# Altium schematic symbol library MatchingConnectors.SchLib: 2 symbols
Pins are listed as number, name and electrical type; pins without a type are passive.

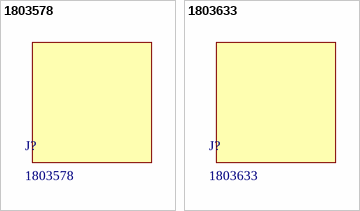
[diagram p0: symbols 1803578 to 1803633]

## 1803578
designator J?
Plug, Terminal Block; 8 A; 160 V; 3.81 mm; 2; Screw; 2.5 kV; 160 V; Polyamide; Manufacturer: Phoenix Contact; Number of Positions: 2; Current Rating: 8A; Gender: Male; Voltage Rating (AC): 160V; Connector Type: Screw,Power,Rectangular; Number of Levels: 1; Voltage: 300V; Pitch: 3.81mm; Wire Gauge (Max): 30AWG; Wire Gauge (Min): 14AWG; Wire/Cable Gauge: 16AWG; Stripping Length: 7mm; Approvals: UL,CSA,VDE; Supplier: Rs; Supplier Part Number: 2204658; Manufacturer Part Number: 1803578; RoHS: Yes; Category: Terminal Blocks; Stock: 1335; Pricing: 5=2.048, 75=1.866, 250=1.702, 500=1.57, 1000=1.448 (GBP); Mounting Technology: Free Hanging,Cable; Contact Material: Tin; Contact Plating: Tin; Housing Color: Green; Housing Material: Polyamide; Color: Green; Weight: 3.456848oz; Insulation Material: Nylon; Min Operating Temperature: -40°C; Max Operating Temperature: 100°C; Package Quantity: 50; Packaging: Bulk; Termination: Screw; Orientation: Right Angle; Series: MC; Number of Poles: 2; Number of Rows: 1; Max Current Rating: 8A; Number of Contacts: 2; Voltage Rating: 160V; Number of Positions Per Level: 2; Current: 8A; Max Supply Voltage: 160V; Number of Circuits: 2; Voltage Rating (DC): 160V; Length: 8.41mm; Width: 16.1mm; Height: 11.1mm; Depth: 16.1mm; Radiation Hardening: No; Lead Free: Lead Free; RoHS Compliant: Yes; Reach SVHC Compliant: No; Flammability Rating: UL94 V-0; ComponentLink1URL: https://datasheet.ciiva.com/795/1803578-795460.pdf?src-supplier=Digikey; ComponentLink1Description: https://datasheet.ciiva.com/795/1803578-795460.pdf?src-supplier=Digikey; ComponentLink2URL: https://datasheet.ciiva.com/16046/1803578-16046760.pdf?src-supplier=Onlinecomponents.com; ComponentLink2Description: https://datasheet.ciiva.com/16046/1803578-16046760.pdf?src-supplier=Onlinecomponents.com; ComponentLink3URL: https://datasheet.ciiva.com/29224/740200-da-01-en-leiterplattenstecker-mc-1-5-2-st-3-81-29224613.pdf?src-supplier=Conrad; ComponentLink3Description: https://datasheet.ciiva.com/29224/740200-da-01-en-leiterplattenstecker-mc-1-5-2-st-3-81-29224613.pdf?src-supplier=Conrad; Supplier 1: Rs; Supplier Part Number 1: 2204658

## 1803633
designator J?
Plug, Terminal Block; 8 A; 160 V; 3.81 mm; 8; Screw; 2.5 kV; 160 V; Polyamide; Manufacturer: Phoenix Contact; Gender: Male; Number of Positions: 8; Current Rating: 8A; Voltage Rating: 160V; Number of Levels: 1; Voltage: 300V; Wire Gauge (Max): 30AWG; Wire Gauge (Min): 14AWG; Wire/Cable Gauge: 28AWG; Pitch: 3.81mm; Stripping Length: 7mm; Thread Size: M2; Approvals: UL,CSA,VDE,cULus,CB,EAC; Supplier 1: Rs; Supplier Part Number 1: 2204709; Supplier: Rs; Supplier Part Number: 2204709; Manufacturer Part Number: 1803633; RoHS: Yes; Category: Terminal Blocks; Stock: 1540; Pricing: 5=7.832, 125=7.048, 375=6.266, 1000=5.474, 2000=5.09 (GBP); Mounting Technology: Free Hanging,Cable; Contact Plating: Tin; Contact Material: Tin; Color: Green; Weight: 3.456848oz; Material: Nylon; Housing Color: Green; Housing Material: Polyamide; Insulation Material: Nylon; Packaging: Bulk; Series: MC; Number of Rows: 1; Package Quantity: 50; Termination: Screw; Number of Poles: 8; Max Current Rating: 8A; Max Supply Voltage: 160V; Number of Positions Per Level: 8; Current: 8A; Number of Contacts: 8; Number of Circuits: 8; Orientation: Right Angle; Connector Type: Screw; Voltage Rating (DC): 160V; Number of Ways: 8; Length: 31.27mm; Width: 31.27mm; Height: 11.1mm; Depth: 16.1mm; Radiation Hardening: No; RoHS Compliant: Yes; Reach SVHC Compliant: No; Lead Free: Lead Free; Flammability Rating: UL94 V-0; ComponentLink1URL: https://datasheet.ciiva.com/795/1803633-795565.pdf?src-supplier=Digikey; ComponentLink1Description: https://datasheet.ciiva.com/795/1803633-795565.pdf?src-supplier=Digikey; ComponentLink2URL: https://datasheet.ciiva.com/16071/1803633-16071208.pdf?src-supplier=Onlinecomponents.com; ComponentLink2Description: https://datasheet.ciiva.com/16071/1803633-16071208.pdf?src-supplier=Onlinecomponents.com; ComponentLink3URL: https://datasheet.ciiva.com/15169/getdatasheetpartid-177866-15169646.pdf?src-supplier=Verical; ComponentLink3Description: https://datasheet.ciiva.com/15169/getdatasheetpartid-177866-15169646.pdf?src-supplier=Verical; ComponentLink4URL: https://datasheet.ciiva.com/8032/100951-8032830.pdf?src-supplier=Element14; ComponentLink4Description: https://datasheet.ciiva.com/8032/100951-8032830.pdf?src-supplier=Element14; ComponentLink5URL: https://datasheet.ciiva.com/29224/740320-da-01-en-leiterplattenstecker-mc-1-5-8-st-3-81-29224629.pdf?src-supplier=Conrad; ComponentLink5Description: https://datasheet.ciiva.com/29224/740320-da-01-en-leiterplattenstecker-mc-1-5-8-st-3-81-29224629.pdf?src-supplier=Conrad; ComponentLink6URL: https://datasheet.ciiva.com/33105/1803633-33105740.pdf?src-supplier=Today+Components; ComponentLink6Description: https://datasheet.ciiva.com/33105/1803633-33105740.pdf?src-supplier=Today+Components